# EAGLE library part SSW-104-02-S-Q (library con-samtec)
THROUGH-HOLE .025" SQ POST SOCKET Source: Samtec SSW.pdf
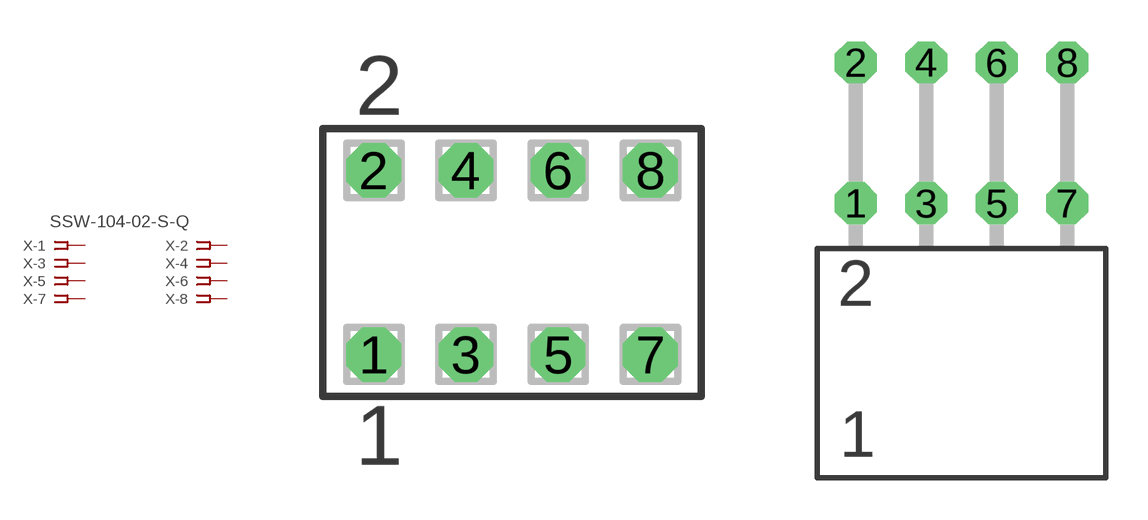
[diagram p144: symbol with the pads of SSW-104-02-S-Q; footprints SSW-104-02-S-Q, SSW-104-02-S-Q-RA]

Designator prefix X; gates -1=FPINV -2=FPIN -3=FPIN -4=FPIN -5=FPIN -6=FPIN -7=FPIN -8=FPIN

## SSW-104-02-S-Q  [SSW-104-02-S-Q]
1  -1:1  pas
2  -2:1  pas
3  -3:1  pas
4  -4:1  pas
5  -5:1  pas
6  -6:1  pas
7  -7:1  pas
8  -8:1  pas

## SSW-104-02-S-QRA  [SSW-104-02-S-Q-RA]
Pads as for SSW-104-02-S-Q

## Footprint SSW-104-02-S-Q (pad centres in mm)
THROUGH-HOLE .025" SQ POST SOCKET Source: Samtec SSW.pdf
drill 1 pad 1.5 octagon: 1 -3.81,-2.54; 2 -3.81,2.54; 3 -1.27,-2.54; 4 -1.27,2.54; 5 1.27,-2.54; 6 1.27,2.54; 7 3.81,-2.54; 8 3.81,2.54

## Footprint SSW-104-02-S-Q-RA (pad centres in mm)
THROUGH-HOLE .025" SQ POST SOCKET Source: Samtec SSW.pdf
drill 1 pad 1.5 octagon: 1 -3.81,1.524; 2 -3.81,6.604; 3 -1.27,1.524; 4 -1.27,6.604; 5 1.27,1.524; 6 1.27,6.604; 7 3.81,1.524; 8 3.81,6.604